# Altium footprint library 51单片机24.PCBLIB: 45 footprints (part 3 of 3)
Each footprint in its own frame and in the unit in brackets; x right, y up, seen from the top. Pads: shape width x height; smd on the part's side, far side on the other; paste and mask are expansions set on the pad; w line width, h text height; cw(c..) or ccw(c..) is an arc to the next point about the centre after c.
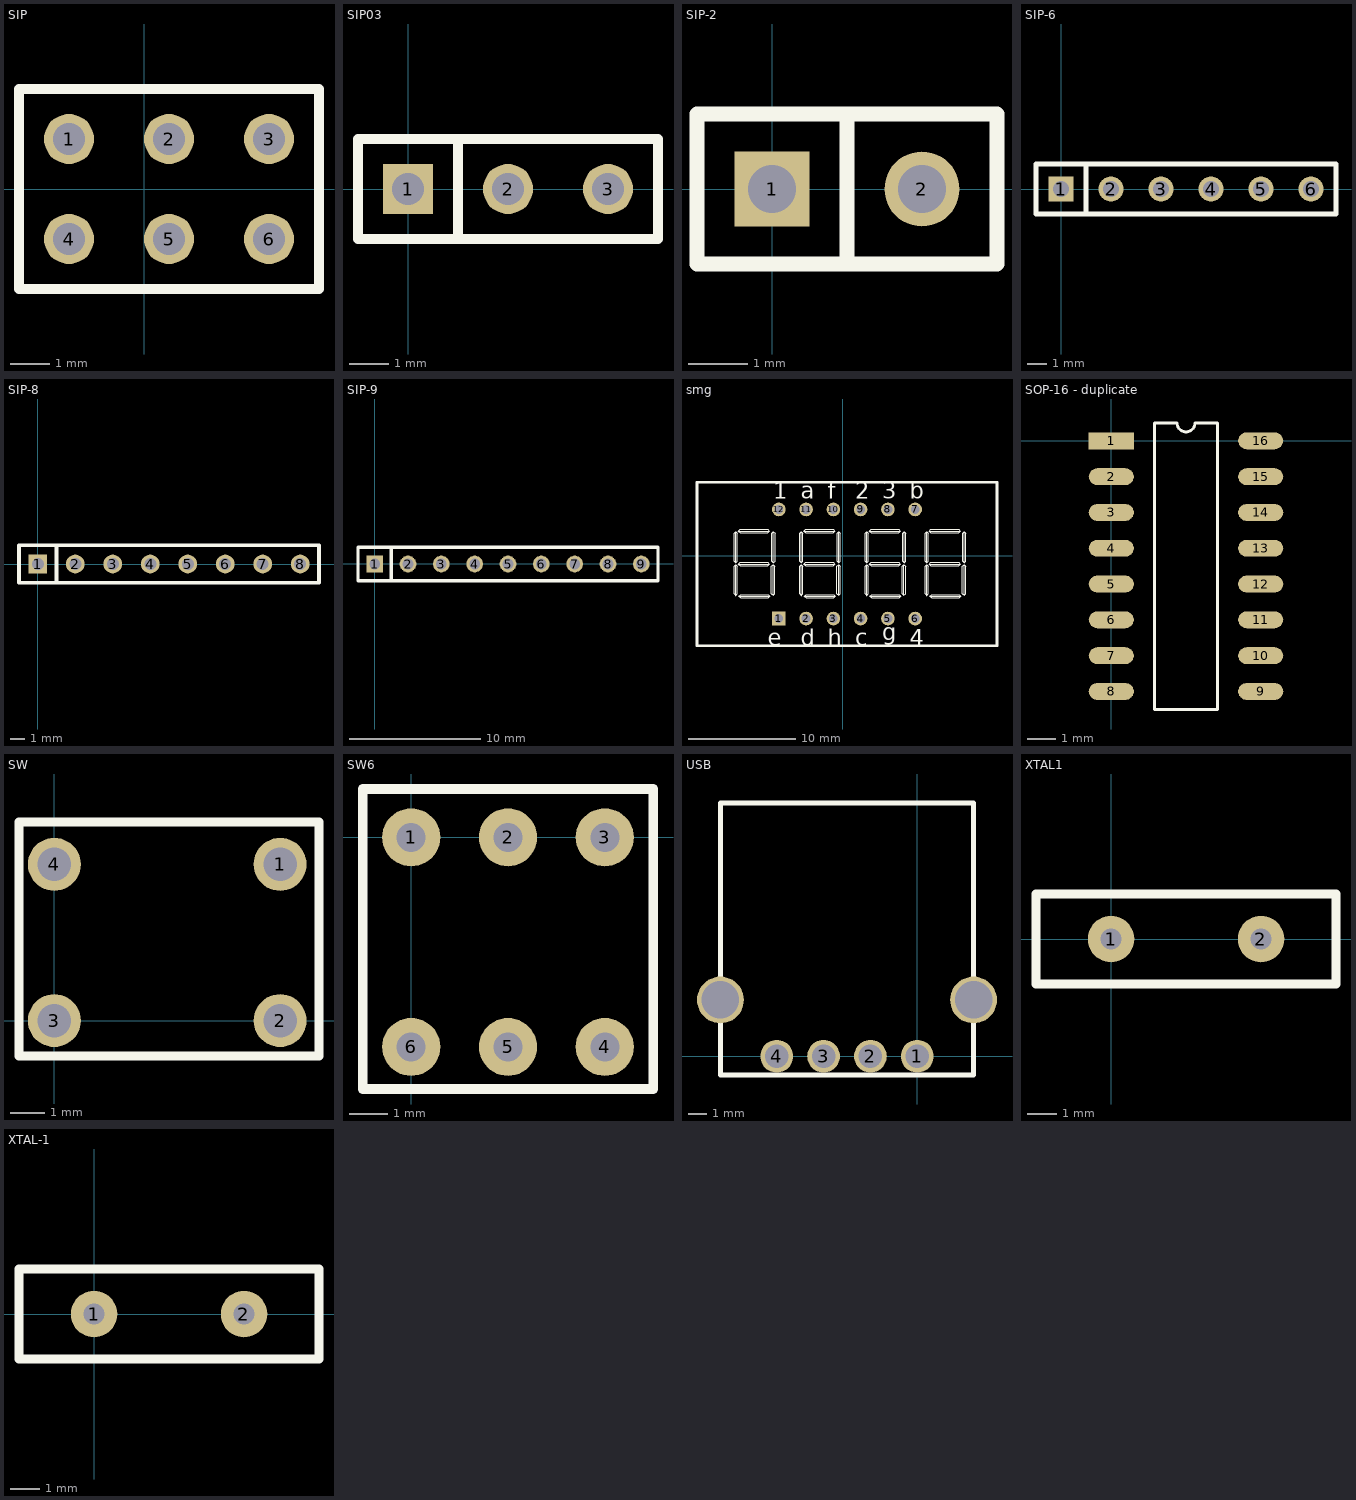
[diagram p2: the footprints below, top view; thin cyan lines are the x and y axes]

## SIP [mil]
pads (6):
  round 50 hole 32: 1(-75,50) 2(25,50) 3(125,50) 4(-75,-50) 5(25,-50) 6(125,-50)
TopOverlay:
  lines w10: -125,-100 175,-100 175,100 -125,100 -125,-100

## SIP03 [mil]
pads (3):
  rect 50x50 hole 32: 1(0,0)
  round 50 hole 32: 2(100,0) 3(200,0)
TopOverlay:
  lines w10: 50,-50 50,50 ; -50,-50 250,-50 250,50 -50,50 -50,-50

## SIP-2 [mil]
pads (2):
  rect 50x50 hole 32: 1(0,0)
  round 50 hole 32: 2(100,0)
TopOverlay:
  lines w10: 50,-50 50,50 ; -50,-50 150,-50 150,50 -50,50 -50,-50

## SIP-6 [mil]
pads (6):
  rect 50x50 hole 32: 1(0,0)
  round 50 hole 32: 2(100,0) 3(200,0) 4(300,0) 5(400,0) 6(500,0)
TopOverlay:
  lines w10: 50,-50 50,50 ; -50,-50 550,-50 550,50 -50,50 -50,-50

## SIP-8 [mil]
pads (8):
  rect 50x50 hole 32: 1(0,0)
  round 50 hole 32: 2(100,0) 3(200,0) 4(300,0) 5(400,0) 6(500,0) 7(600,0) 8(700,0)
TopOverlay:
  lines w10: 50,-50 50,50 ; -50,-50 -50,50 750,50 750,-50 -50,-50

## SIP-9 [mil]
pads (9):
  rect 50x50 hole 32: 1(-0.5,-0.5)
  round 50 hole 32: 2(99.5,-0.5) 3(199.5,-0.5) 4(299.5,-0.5) 5(399.5,-0.5) 6(499.5,-0.5) 7(599.5,-0.5) 8(699.5,-0.5) 9(799.5,-0.5)
TopOverlay:
  lines w10: 49.5,-50.5 49.5,49.5 ; -50.5,-50.5 849.5,-50.5 849.5,49.5 -50.5,49.5 -50.5,-50.5

## smg [mil]
pads (12):
  rect 50x50 hole 32: 1(-235,-230)
  round 50 hole 32: 2(-135,-230) 3(-35,-230) 4(65,-230) 5(165,-230) 6(265,-230) 7(265,170) 8(165,170) 9(65,170) 10(-35,170) 11(-135,170) 12(-235,170)
TopOverlay:
  drawing of 200 lines, arcs and shapes, not listed
  text "e" at -275,-330 h60
  text "d" at -155,-330 h60
  text "h" at -55,-330 h60
  text "c" at 45,-330 h60
  text "g" at 145,-310 h60
  text "4" at 245,-330 h60
  text "b" at 245,210 h60
  text "3" at 145,210 h60
  text "2" at 45,210 h60
  text "f" at -55,210 h60
  text "a" at -155,210 h60
  text "1" at -255,210 h60

## SOP-16 - duplicate [mm]
pads (16):
  rect 1.6x0.6 smd: 1(0,0)
  oval 1.6x0.6 smd: 2(0,-1.27) 3(0,-2.54) 4(0,-3.81) 5(0,-5.08) 6(0,-6.35) 7(0,-7.62) 8(0,-8.89) 9(5.3,-8.89) 10(5.3,-7.62) 11(5.3,-6.35) 12(5.3,-5.08) 13(5.3,-3.81) 14(5.3,-2.54) 15(5.3,-1.27) 16(5.3,0)
TopOverlay:
  lines w0.1: 1.535,-9.525 1.535,0.635 2.332,0.635 ccw(c2.65,0.635) 2.967,0.635 3.765,0.635 3.765,-9.525 1.535,-9.525

## SW [mil]
pads (4):
  round 60 hole 38: 1(255.91,177.17) 2(255.91,0) 3(0,0) 4(0,177.17)
TopOverlay:
  lines w10: -40,-40 300,-40 300,225 -40,225 -40,-40

## SW6 [mil]
pads (6):
  round 60 hole 30: 1(0,0) 2(100,0) 3(200,0) 4(200,-216.54) 5(100,-216.54) 6(0,-216.54)
TopOverlay:
  lines w10: -50,-260 250,-260 250,50 -50,50 -50,-260

## USB [mil]
pads (6):
  round 70 hole 50: 1(0,0) 2(-100,0) 3(-200,0) 4(-300,0)
  round 100 hole 80: ""(-420,120) ""(120,120)
TopOverlay:
  lines w10: -420,-40 120,-40 120,540 -420,540 -420,-40

## XTAL1 [mil]
pads (2):
  round 62 hole 28: 1(0,0) 2(200,0)
TopOverlay:
  lines w12: -100,-60 -100,60 300,60 300,-60 -100,-60

## XTAL-1 [mil]
pads (2):
  round 62 hole 28: 1(0,0) 2(200,0)
TopOverlay:
  lines w12: -100,-60 300,-60 300,60 -100,60 -100,-60